# Altium footprint library CAPS.PcbLib: 166 footprints (part 7 of 11)
Each footprint in its own frame and in the unit in brackets; x right, y up, seen from the top. Pads: shape width x height; smd on the part's side, far side on the other; paste and mask are expansions set on the pad; w line width, h text height; cw(c..) or ccw(c..) is an arc to the next point about the centre after c.
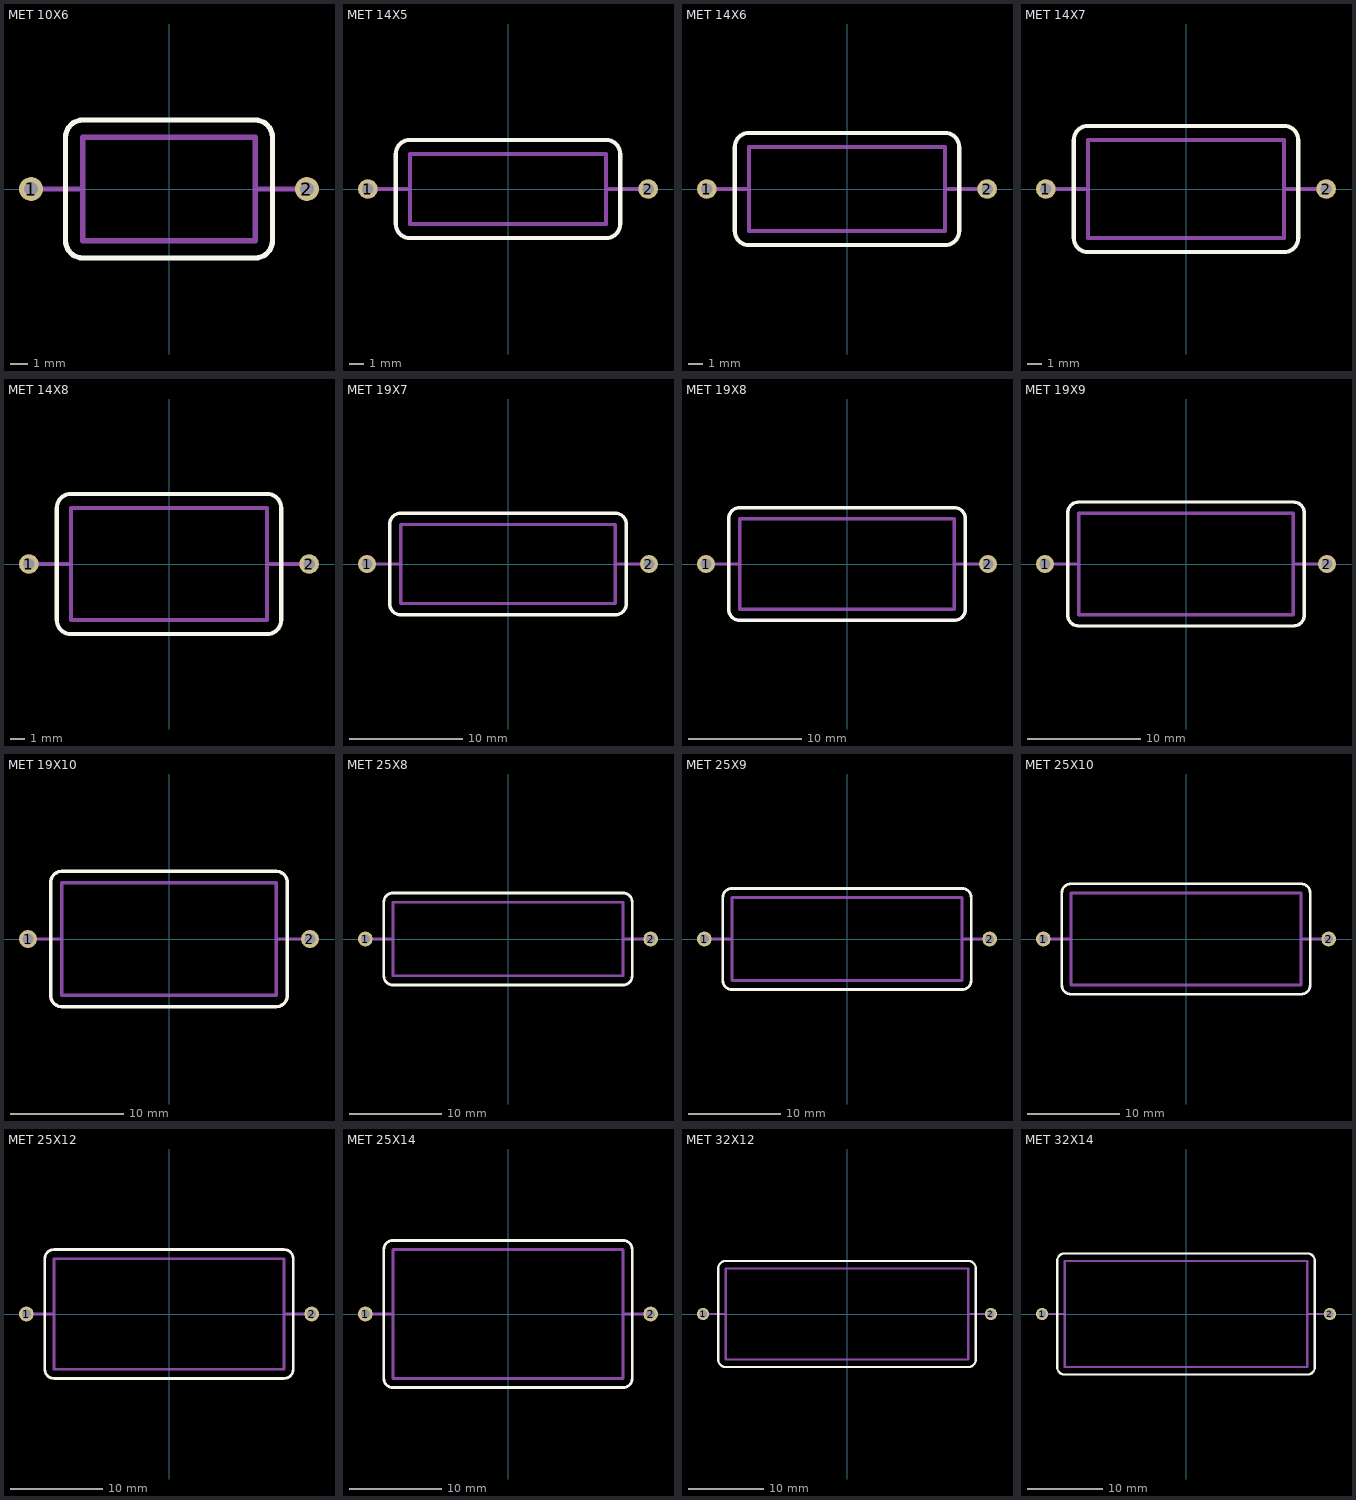
[diagram p6: the footprints below, top view; thin cyan lines are the x and y axes]

## MET 10X6 [mm]
pads (2):
  round 1.4 hole 0.8: 1(-8,0) 2(8,0)
Top Overlay:
  lines w0.3: -6,-3 ccw(c-5,-3) -5,-4 5,-4 ccw(c5,-3) 6,-3 6,3 ccw(c5,3) 5,4 -5,4 ccw(c-5,3) -6,3 -6,-3
Mechanical 1:
  lines w0.3: -8,0 -5,0 ; 5,0 8,0 ; -5,-3 5,-3 5,3 -5,3 -5,-3

## MET 14X5 [mm]
pads (2):
  round 1.4 hole 0.8: 1(-10,0) 2(10,0)
Top Overlay:
  lines w0.3: -8,-2.5 ccw(c-7,-2.5) -7,-3.5 7,-3.5 ccw(c7,-2.5) 8,-2.5 8,2.5 ccw(c7,2.5) 7,3.5 -7,3.5 ccw(c-7,2.5) -8,2.5 -8,-2.5
Mechanical 1:
  lines w0.3: -10,0 -7,0 ; 7,0 10,0 ; -7,-2.5 7,-2.5 7,2.5 -7,2.5 -7,-2.5

## MET 14X6 [mm]
pads (2):
  round 1.4 hole 0.8: 1(-10,0) 2(10,0)
Top Overlay:
  lines w0.3: -8,-3 ccw(c-7,-3) -7,-4 7,-4 ccw(c7,-3) 8,-3 8,3 ccw(c7,3) 7,4 -7,4 ccw(c-7,3) -8,3 -8,-3
Mechanical 1:
  lines w0.3: -10,0 -7,0 ; 7,0 10,0 ; -7,-3 7,-3 7,3 -7,3 -7,-3

## MET 14X7 [mm]
pads (2):
  round 1.4 hole 0.8: 1(-10,0) 2(10,0)
Top Overlay:
  lines w0.3: -8,-3.5 ccw(c-7,-3.5) -7,-4.5 7,-4.5 ccw(c7,-3.5) 8,-3.5 8,3.5 ccw(c7,3.5) 7,4.5 -7,4.5 ccw(c-7,3.5) -8,3.5 -8,-3.5
Mechanical 1:
  lines w0.3: -10,0 -7,0 ; 7,0 10,0 ; -7,-3.5 7,-3.5 7,3.5 -7,3.5 -7,-3.5

## MET 14X8 [mm]
pads (2):
  round 1.4 hole 0.8: 1(-10,0) 2(10,0)
Top Overlay:
  lines w0.3: -8,-4 ccw(c-7,-4) -7,-5 7,-5 ccw(c7,-4) 8,-4 8,4 ccw(c7,4) 7,5 -7,5 ccw(c-7,4) -8,4 -8,-4
Mechanical 1:
  lines w0.3: -10,0 -7,0 ; 7,0 10,0 ; -7,-4 7,-4 7,4 -7,4 -7,-4

## MET 19X7 [mm]
pads (2):
  round 1.6 hole 1: 1(-12.5,0) 2(12.5,0)
Top Overlay:
  lines w0.3: -10.5,-3.5 ccw(c-9.5,-3.5) -9.5,-4.5 9.5,-4.5 ccw(c9.5,-3.5) 10.5,-3.5 10.5,3.5 ccw(c9.5,3.5) 9.5,4.5 -9.5,4.5 ccw(c-9.5,3.5) -10.5,3.5 -10.5,-3.5
Mechanical 1:
  lines w0.3: -12.5,0 -9.5,0 ; 9.5,0 12.5,0 ; -9.5,-3.5 9.5,-3.5 9.5,3.5 -9.5,3.5 -9.5,-3.5

## MET 19X8 [mm]
pads (2):
  round 1.6 hole 1: 1(-12.5,0) 2(12.5,0)
Top Overlay:
  lines w0.3: -10.5,-4 ccw(c-9.5,-4) -9.5,-5 9.5,-5 ccw(c9.5,-4) 10.5,-4 10.5,4 ccw(c9.5,4) 9.5,5 -9.5,5 ccw(c-9.5,4) -10.5,4 -10.5,-4
Mechanical 1:
  lines w0.3: -12.5,0 -9.5,0 ; 9.5,0 12.5,0 ; -9.5,-4 9.5,-4 9.5,4 -9.5,4 -9.5,-4

## MET 19X9 [mm]
pads (2):
  round 1.6 hole 1: 1(-12.5,0) 2(12.5,0)
Top Overlay:
  lines w0.3: -10.5,-4.5 ccw(c-9.5,-4.5) -9.5,-5.5 9.5,-5.5 ccw(c9.5,-4.5) 10.5,-4.5 10.5,4.5 ccw(c9.5,4.5) 9.5,5.5 -9.5,5.5 ccw(c-9.5,4.5) -10.5,4.5 -10.5,-4.5
Mechanical 1:
  lines w0.3: -12.5,0 -9.5,0 ; 9.5,0 12.5,0 ; -9.5,-4.5 9.5,-4.5 9.5,4.5 -9.5,4.5 -9.5,-4.5

## MET 19X10 [mm]
pads (2):
  round 1.6 hole 1: 1(-12.5,0) 2(12.5,0)
Top Overlay:
  lines w0.3: -10.5,-5 ccw(c-9.5,-5) -9.5,-6 9.5,-6 ccw(c9.5,-5) 10.5,-5 10.5,5 ccw(c9.5,5) 9.5,6 -9.5,6 ccw(c-9.5,5) -10.5,5 -10.5,-5
Mechanical 1:
  lines w0.3: -12.5,0 -9.5,0 ; 9.5,0 12.5,0 ; -9.5,-5 9.5,-5 9.5,5 -9.5,5 -9.5,-5

## MET 25X8 [mm]
pads (2):
  round 1.6 hole 1: 1(-15.5,0) 2(15.5,0)
Top Overlay:
  lines w0.3: -13.5,-4 ccw(c-12.5,-4) -12.5,-5 12.5,-5 ccw(c12.5,-4) 13.5,-4 13.5,4 ccw(c12.5,4) 12.5,5 -12.5,5 ccw(c-12.5,4) -13.5,4 -13.5,-4
Mechanical 1:
  lines w0.3: -15.5,0 -12.5,0 ; 12.5,0 15.5,0 ; -12.5,-4 -12.5,4 12.5,4 12.5,-4 -12.5,-4

## MET 25X9 [mm]
pads (2):
  round 1.6 hole 1: 1(-15.5,0) 2(15.5,0)
Top Overlay:
  lines w0.3: -13.5,-4.5 ccw(c-12.5,-4.5) -12.5,-5.5 12.5,-5.5 ccw(c12.5,-4.5) 13.5,-4.5 13.5,4.5 ccw(c12.5,4.5) 12.5,5.5 -12.5,5.5 ccw(c-12.5,4.5) -13.5,4.5 -13.5,-4.5
Mechanical 1:
  lines w0.3: -15.5,0 -12.5,0 ; 12.5,0 15.5,0 ; -12.5,-4.5 12.5,-4.5 12.5,4.5 -12.5,4.5 -12.5,-4.5

## MET 25X10 [mm]
pads (2):
  round 1.6 hole 1: 1(-15.5,0) 2(15.5,0)
Top Overlay:
  lines w0.3: -13.5,-5 ccw(c-12.5,-5) -12.5,-6 12.5,-6 ccw(c12.5,-5) 13.5,-5 13.5,5 ccw(c12.5,5) 12.5,6 -12.5,6 ccw(c-12.5,5) -13.5,5 -13.5,-5
Mechanical 1:
  lines w0.3: -15.5,0 -12.5,0 ; 12.5,0 15.5,0 ; -12.5,-5 12.5,-5 12.5,5 -12.5,5 -12.5,-5

## MET 25X12 [mm]
pads (2):
  round 1.6 hole 1: 1(-15.5,0) 2(15.5,0)
Top Overlay:
  lines w0.3: -13.5,-6 ccw(c-12.5,-6) -12.5,-7 12.5,-7 ccw(c12.5,-6) 13.5,-6 13.5,6 ccw(c12.5,6) 12.5,7 -12.5,7 ccw(c-12.5,6) -13.5,6 -13.5,-6
Mechanical 1:
  lines w0.3: -15.5,0 -12.5,0 ; 12.5,0 15.5,0 ; -12.5,-6 12.5,-6 12.5,6 -12.5,6 -12.5,-6

## MET 25X14 [mm]
pads (2):
  round 1.6 hole 1: 1(-15.5,0) 2(15.5,0)
Top Overlay:
  lines w0.3: -13.5,-7 ccw(c-12.5,-7) -12.5,-8 12.5,-8 ccw(c12.5,-7) 13.5,-7 13.5,7 ccw(c12.5,7) 12.5,8 -12.5,8 ccw(c-12.5,7) -13.5,7 -13.5,-7
Mechanical 1:
  lines w0.3: -15.5,0 -12.5,0 ; 12.5,0 15.5,0 ; -12.5,-7 12.5,-7 12.5,7 -12.5,7 -12.5,-7

## MET 32X12 [mm]
pads (2):
  round 1.6 hole 1: 1(-19,0) 2(19,0)
Top Overlay:
  lines w0.3: -17,-6 ccw(c-16,-6) -16,-7 16,-7 ccw(c16,-6) 17,-6 17,6 ccw(c16,6) 16,7 -16,7 ccw(c-16,6) -17,6 -17,-6
Mechanical 1:
  lines w0.3: -19,0 -16,0 ; 16,0 19,0 ; -16,-6 16,-6 16,6 -16,6 -16,-6

## MET 32X14 [mm]
pads (2):
  round 1.6 hole 1: 1(-19,0) 2(19,0)
Top Overlay:
  lines w0.3: -17,-7 ccw(c-16,-7) -16,-8 16,-8 ccw(c16,-7) 17,-7 17,7 ccw(c16,7) 16,8 -16,8 ccw(c-16,7) -17,7 -17,-7
Mechanical 1:
  lines w0.3: -19,0 -16,0 ; 16,0 19,0 ; -16,-7 -16,7 16,7 16,-7 -16,-7